# Altium footprint library connector.PcbLib: 63 footprints (part 3 of 4)
Each footprint in its own frame and in the unit in brackets; x right, y up, seen from the top. Pads: shape width x height; smd on the part's side, far side on the other; paste and mask are expansions set on the pad; w line width, h text height; cw(c..) or ccw(c..) is an arc to the next point about the centre after c.
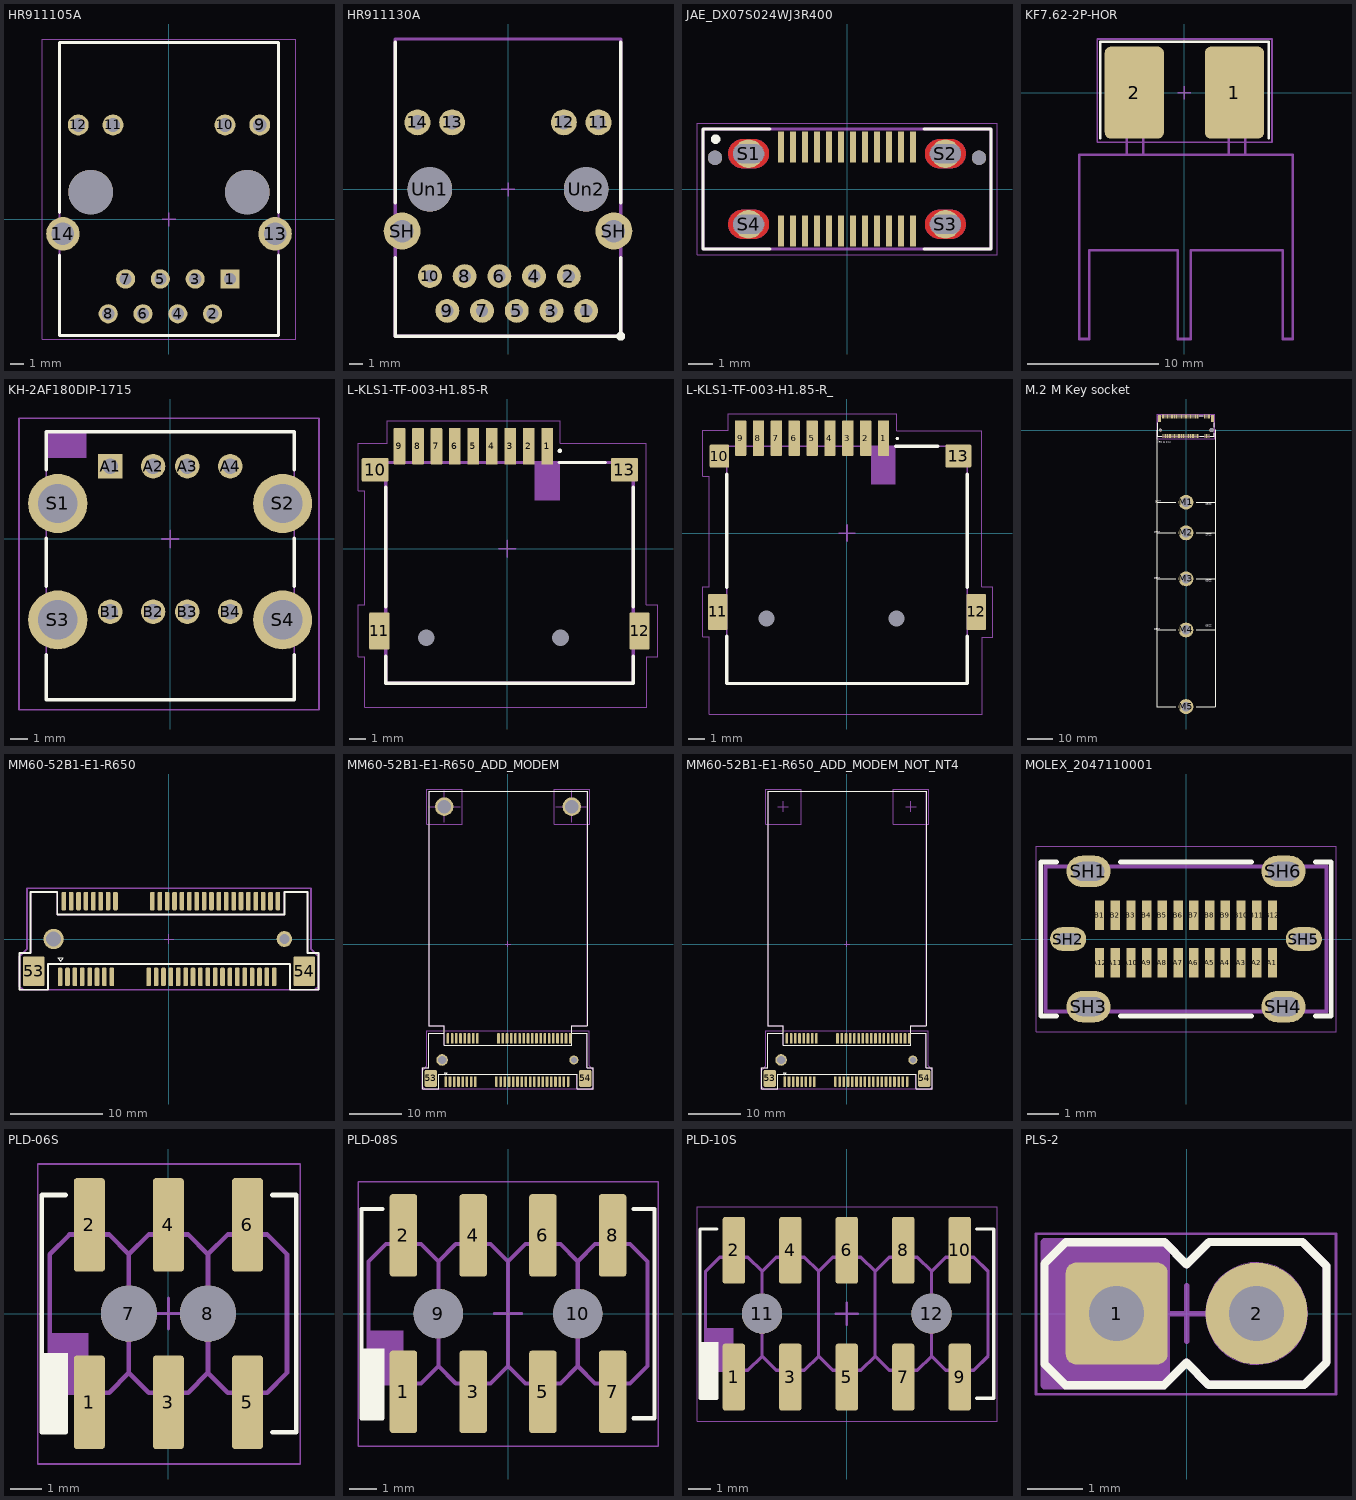
[diagram p2: the footprints below, top view; thin cyan lines are the x and y axes]

## HR911105A [mm]
pads (16):
  rect 1.398x1.398 / inner round 1.398 / far side rect 1.398x1.398 hole 0.89: 1(4.45,-4.355)
  round 1.398 hole 0.89: 2(3.18,-6.895) 3(1.91,-4.355) 4(0.64,-6.895) 5(-0.63,-4.355) 6(-1.9,-6.895) 7(-3.17,-4.355) 8(-4.44,-6.895)
  round 1.53 hole 1.02: 9(6.625,6.895) 10(4.085,6.895) 11(-4.085,6.895) 12(-6.625,6.895)
  round 2.445 hole 1.63: 13(7.745,-1.055) 14(-7.745,-1.055)
  round 3.25 hole 3.25 unplated: ""(-5.715,1.995) ""(5.715,1.995)
Top Overlay:
  lines w0.2: -8,-2.605 -8,-8.485 8,-8.485 8,-2.605 ; -8,0.495 -8,12.915 8,12.915 8,0.495
Top Designator:
  text ".Designator" at -2.799,13.545 h0.6
Top Assembly:
  lines w0.15: -8,-8.485 8,-8.485 8,12.915 -8,12.915 -8,-8.485
Top Courtyard:
  lines w0.05: -9.25,-8.735 9.25,-8.735 9.25,13.165 -9.25,13.165 -9.25,-8.735
  lines w0.1: -0.5,-0.005 0.5,-0.005 ; 0,-0.505 0,0.495
3D body "step_temp.STEP": height 13.6, standoff -2.95, extent -8,-8.385 8.04,12.915

## HR911130A [mm]
pads (18):
  round 1.75 hole 0.9 paste-2539.97 mask+0: 1(5.72,-8.89) 2(4.45,-6.35) 3(3.18,-8.89) 4(1.91,-6.35) 5(0.64,-8.89) 6(-0.63,-6.35) 7(-1.9,-8.89) 8(-3.17,-6.35) 9(-4.44,-8.89) 10(-5.71,-6.35)
  round 1.9 hole 1.05 paste-2539.97 mask+0: 11(6.625,4.9) 12(4.085,4.9) 13(-4.085,4.9) 14(-6.625,4.9)
  round 2.7 hole 1.65 paste-2539.97 mask+0: SH(-7.745,-3.05) SH(7.745,-3.05)
  round 3.25 hole 3.25 paste-2539.97 mask+0: Un1(-5.715,0) Un2(5.715,0)
Top Overlay:
  circle w0.254: c8.25,-10.75 r0.2
  lines w0.254: -8.25,-5 -8.25,-10.75 8.25,-10.75 8.25,-5 ; -8.25,-1 -8.25,10.75 ; 8.25,-1 8.25,10.75
Top Designator:
  text ".Designator" at -3.249,11.8 h0.6
Top Dimensions:
  lines w0.254: -8.25,-10.75 8.25,-10.75 8.25,11 -8.25,11 -8.25,-10.75
  text "1" at 7.664,-9.313 h1
Top Courtyard:
  lines w0.1: -0.5,0 0.5,0 ; 0,-0.5 0,0.5

## JAE_DX07S024WJ3R400 [mm]
pads (30):
  rrect20% 0.27x1.3 smd: A1(-2.75,1.75) A2(-2.25,1.75) A3(-1.75,1.75) A4(-1.25,1.75) A5(-0.75,1.75) A6(-0.25,1.75) A7(0.25,1.75) A8(0.75,1.75) A9(1.25,1.75) A10(1.75,1.75) A11(2.25,1.75) A12(2.75,1.75) B1(2.75,-1.75) B2(2.25,-1.75) B3(1.75,-1.75) B4(1.25,-1.75) B5(0.75,-1.75) B6(0.25,-1.75) B7(-0.25,-1.75) B8(-0.75,-1.75) B9(-1.25,-1.75) B10(-1.75,-1.75) B11(-2.25,-1.75) B12(-2.75,-1.75)
  round 1.2 hole 0.8 slot 1.3 at 0 deg: S1(-4.1,1.47) S2(4.1,1.47) S3(4.1,-1.47) S4(-4.1,-1.47)
  round 0.6 hole 0.6 unplated: ""(-5.5,1.3) ""(5.5,1.3)
Top Layer:
  region: 4.381,-0.871 4.413,-0.873 4.444,-0.877 4.475,-0.883 4.505,-0.89 4.535,-0.899 4.565,-0.91 4.594,-0.922 4.622,-0.935 4.65,-0.95 4.677,-0.967 4.703,-0.985 4.728,-1.004 4.751,-1.024 4.774,-1.046 4.796,-1.069 4.816,-1.092 4.835,-1.117 4.853,-1.143 4.87,-1.17 4.885,-1.198 4.898,-1.226 4.91,-1.255 4.921,-1.285 4.93,-1.315 4.937,-1.345 4.943,-1.376 4.947,-1.407 4.949,-1.439 4.95,-1.47 4.949,-1.501 4.947,-1.533 4.943,-1.564 4.937,-1.595 4.93,-1.625 4.921,-1.655 4.91,-1.685 4.898,-1.714 4.885,-1.742 4.87,-1.77 4.853,-1.797 4.835,-1.823 4.816,-1.848 4.796,-1.871 4.774,-1.894 4.751,-1.916 4.728,-1.936 4.703,-1.955 4.677,-1.973 4.65,-1.99 4.622,-2.005 4.594,-2.018 4.565,-2.03 4.535,-2.041 4.505,-2.05 4.475,-2.057 4.444,-2.063 4.413,-2.067 4.381,-2.069 4.35,-2.07 3.85,-2.07 3.819,-2.069 3.787,-2.067 3.756,-2.063 3.725,-2.057 3.695,-2.05 3.665,-2.041 3.635,-2.03 3.606,-2.018 3.578,-2.005 3.55,-1.99 3.523,-1.973 3.497,-1.955 3.472,-1.936 3.449,-1.916 3.426,-1.894 3.404,-1.871 3.384,-1.848 3.365,-1.823 3.347,-1.797 3.33,-1.77 3.315,-1.742 3.302,-1.714 3.29,-1.685 3.279,-1.655 3.27,-1.625 3.263,-1.595 3.257,-1.564 3.253,-1.533 3.251,-1.501 3.25,-1.47 3.251,-1.439 3.253,-1.407 3.257,-1.376 3.263,-1.345 3.27,-1.315 3.279,-1.285 3.29,-1.255 3.302,-1.226 3.315,-1.198 3.33,-1.17 3.347,-1.143 3.365,-1.117 3.384,-1.092 3.404,-1.069 3.426,-1.046 3.449,-1.024 3.472,-1.004 3.497,-0.985 3.523,-0.967 3.55,-0.95 3.578,-0.935 3.606,-0.922 3.635,-0.91 3.665,-0.899 3.695,-0.89 3.725,-0.883 3.756,-0.877 3.787,-0.873 3.819,-0.871 3.85,-0.87 4.35,-0.87
  region: 4.381,2.069 4.413,2.067 4.444,2.063 4.475,2.057 4.505,2.05 4.535,2.041 4.565,2.03 4.594,2.018 4.622,2.005 4.65,1.99 4.677,1.973 4.703,1.955 4.728,1.936 4.751,1.916 4.774,1.894 4.796,1.871 4.816,1.848 4.835,1.823 4.853,1.797 4.87,1.77 4.885,1.742 4.898,1.714 4.91,1.685 4.921,1.655 4.93,1.625 4.937,1.595 4.943,1.564 4.947,1.533 4.949,1.501 4.95,1.47 4.949,1.439 4.947,1.407 4.943,1.376 4.937,1.345 4.93,1.315 4.921,1.285 4.91,1.255 4.898,1.226 4.885,1.198 4.87,1.17 4.853,1.143 4.835,1.117 4.816,1.092 4.796,1.069 4.774,1.046 4.751,1.024 4.728,1.004 4.703,0.985 4.677,0.967 4.65,0.95 4.622,0.935 4.594,0.922 4.565,0.91 4.535,0.899 4.505,0.89 4.475,0.883 4.444,0.877 4.413,0.873 4.381,0.871 4.35,0.87 3.85,0.87 3.819,0.871 3.787,0.873 3.756,0.877 3.725,0.883 3.695,0.89 3.665,0.899 3.635,0.91 3.606,0.922 3.578,0.935 3.55,0.95 3.523,0.967 3.497,0.985 3.472,1.004 3.449,1.024 3.426,1.046 3.404,1.069 3.384,1.092 3.365,1.117 3.347,1.143 3.33,1.17 3.315,1.198 3.302,1.226 3.29,1.255 3.279,1.285 3.27,1.315 3.263,1.345 3.257,1.376 3.253,1.407 3.251,1.439 3.25,1.47 3.251,1.501 3.253,1.533 3.257,1.564 3.263,1.595 3.27,1.625 3.279,1.655 3.29,1.685 3.302,1.714 3.315,1.742 3.33,1.77 3.347,1.797 3.365,1.823 3.384,1.848 3.404,1.871 3.426,1.894 3.449,1.916 3.472,1.936 3.497,1.955 3.523,1.973 3.55,1.99 3.578,2.005 3.606,2.018 3.635,2.03 3.665,2.041 3.695,2.05 3.725,2.057 3.756,2.063 3.787,2.067 3.819,2.069 3.85,2.07 4.35,2.07
  region: -3.819,-0.871 -3.787,-0.873 -3.756,-0.877 -3.725,-0.883 -3.695,-0.89 -3.665,-0.899 -3.635,-0.91 -3.606,-0.922 -3.578,-0.935 -3.55,-0.95 -3.523,-0.967 -3.497,-0.985 -3.472,-1.004 -3.449,-1.024 -3.426,-1.046 -3.404,-1.069 -3.384,-1.092 -3.365,-1.117 -3.347,-1.143 -3.33,-1.17 -3.315,-1.198 -3.302,-1.226 -3.29,-1.255 -3.279,-1.285 -3.27,-1.315 -3.263,-1.345 -3.257,-1.376 -3.253,-1.407 -3.251,-1.439 -3.25,-1.47 -3.251,-1.501 -3.253,-1.533 -3.257,-1.564 -3.263,-1.595 -3.27,-1.625 -3.279,-1.655 -3.29,-1.685 -3.302,-1.714 -3.315,-1.742 -3.33,-1.77 -3.347,-1.797 -3.365,-1.823 -3.384,-1.848 -3.404,-1.871 -3.426,-1.894 -3.449,-1.916 -3.472,-1.936 -3.497,-1.955 -3.523,-1.973 -3.55,-1.99 -3.578,-2.005 -3.606,-2.018 -3.635,-2.03 -3.665,-2.041 -3.695,-2.05 -3.725,-2.057 -3.756,-2.063 -3.787,-2.067 -3.819,-2.069 -3.85,-2.07 -4.35,-2.07 -4.381,-2.069 -4.413,-2.067 -4.444,-2.063 -4.475,-2.057 -4.505,-2.05 -4.535,-2.041 -4.565,-2.03 -4.594,-2.018 -4.622,-2.005 -4.65,-1.99 -4.677,-1.973 -4.703,-1.955 -4.728,-1.936 -4.751,-1.916 -4.774,-1.894 -4.796,-1.871 -4.816,-1.848 -4.835,-1.823 -4.853,-1.797 -4.87,-1.77 -4.885,-1.742 -4.898,-1.714 -4.91,-1.685 -4.921,-1.655 -4.93,-1.625 -4.937,-1.595 -4.943,-1.564 -4.947,-1.533 -4.949,-1.501 -4.95,-1.47 -4.949,-1.439 -4.947,-1.407 -4.943,-1.376 -4.937,-1.345 -4.93,-1.315 -4.921,-1.285 -4.91,-1.255 -4.898,-1.226 -4.885,-1.198 -4.87,-1.17 -4.853,-1.143 -4.835,-1.117 -4.816,-1.092 -4.796,-1.069 -4.774,-1.046 -4.751,-1.024 -4.728,-1.004 -4.703,-0.985 -4.677,-0.967 -4.65,-0.95 -4.622,-0.935 -4.594,-0.922 -4.565,-0.91 -4.535,-0.899 -4.505,-0.89 -4.475,-0.883 -4.444,-0.877 -4.413,-0.873 -4.381,-0.871 -4.35,-0.87 -3.85,-0.87
  region: -3.819,2.069 -3.787,2.067 -3.756,2.063 -3.725,2.057 -3.695,2.05 -3.665,2.041 -3.635,2.03 -3.606,2.018 -3.578,2.005 -3.55,1.99 -3.523,1.973 -3.497,1.955 -3.472,1.936 -3.449,1.916 -3.426,1.894 -3.404,1.871 -3.384,1.848 -3.365,1.823 -3.347,1.797 -3.33,1.77 -3.315,1.742 -3.302,1.714 -3.29,1.685 -3.279,1.655 -3.27,1.625 -3.263,1.595 -3.257,1.564 -3.253,1.533 -3.251,1.501 -3.25,1.47 -3.251,1.439 -3.253,1.407 -3.257,1.376 -3.263,1.345 -3.27,1.315 -3.279,1.285 -3.29,1.255 -3.302,1.226 -3.315,1.198 -3.33,1.17 -3.347,1.143 -3.365,1.117 -3.384,1.092 -3.404,1.069 -3.426,1.046 -3.449,1.024 -3.472,1.004 -3.497,0.985 -3.523,0.967 -3.55,0.95 -3.578,0.935 -3.606,0.922 -3.635,0.91 -3.665,0.899 -3.695,0.89 -3.725,0.883 -3.756,0.877 -3.787,0.873 -3.819,0.871 -3.85,0.87 -4.35,0.87 -4.381,0.871 -4.413,0.873 -4.444,0.877 -4.475,0.883 -4.505,0.89 -4.535,0.899 -4.565,0.91 -4.594,0.922 -4.622,0.935 -4.65,0.95 -4.677,0.967 -4.703,0.985 -4.728,1.004 -4.751,1.024 -4.774,1.046 -4.796,1.069 -4.816,1.092 -4.835,1.117 -4.853,1.143 -4.87,1.17 -4.885,1.198 -4.898,1.226 -4.91,1.255 -4.921,1.285 -4.93,1.315 -4.937,1.345 -4.943,1.376 -4.947,1.407 -4.949,1.439 -4.95,1.47 -4.949,1.501 -4.947,1.533 -4.943,1.564 -4.937,1.595 -4.93,1.625 -4.921,1.655 -4.91,1.685 -4.898,1.714 -4.885,1.742 -4.87,1.77 -4.853,1.797 -4.835,1.823 -4.816,1.848 -4.796,1.871 -4.774,1.894 -4.751,1.916 -4.728,1.936 -4.703,1.955 -4.677,1.973 -4.65,1.99 -4.622,2.005 -4.594,2.018 -4.565,2.03 -4.535,2.041 -4.505,2.05 -4.475,2.057 -4.444,2.063 -4.413,2.067 -4.381,2.069 -4.35,2.07 -3.85,2.07
Bottom Layer:
  region: 4.381,-0.871 4.413,-0.873 4.444,-0.877 4.475,-0.883 4.505,-0.89 4.535,-0.899 4.565,-0.91 4.594,-0.922 4.622,-0.935 4.65,-0.95 4.677,-0.967 4.703,-0.985 4.728,-1.004 4.751,-1.024 4.774,-1.046 4.796,-1.069 4.816,-1.092 4.835,-1.117 4.853,-1.143 4.87,-1.17 4.885,-1.198 4.898,-1.226 4.91,-1.255 4.921,-1.285 4.93,-1.315 4.937,-1.345 4.943,-1.376 4.947,-1.407 4.949,-1.439 4.95,-1.47 4.949,-1.501 4.947,-1.533 4.943,-1.564 4.937,-1.595 4.93,-1.625 4.921,-1.655 4.91,-1.685 4.898,-1.714 4.885,-1.742 4.87,-1.77 4.853,-1.797 4.835,-1.823 4.816,-1.848 4.796,-1.871 4.774,-1.894 4.751,-1.916 4.728,-1.936 4.703,-1.955 4.677,-1.973 4.65,-1.99 4.622,-2.005 4.594,-2.018 4.565,-2.03 4.535,-2.041 4.505,-2.05 4.475,-2.057 4.444,-2.063 4.413,-2.067 4.381,-2.069 4.35,-2.07 3.85,-2.07 3.819,-2.069 3.787,-2.067 3.756,-2.063 3.725,-2.057 3.695,-2.05 3.665,-2.041 3.635,-2.03 3.606,-2.018 3.578,-2.005 3.55,-1.99 3.523,-1.973 3.497,-1.955 3.472,-1.936 3.449,-1.916 3.426,-1.894 3.404,-1.871 3.384,-1.848 3.365,-1.823 3.347,-1.797 3.33,-1.77 3.315,-1.742 3.302,-1.714 3.29,-1.685 3.279,-1.655 3.27,-1.625 3.263,-1.595 3.257,-1.564 3.253,-1.533 3.251,-1.501 3.25,-1.47 3.251,-1.439 3.253,-1.407 3.257,-1.376 3.263,-1.345 3.27,-1.315 3.279,-1.285 3.29,-1.255 3.302,-1.226 3.315,-1.198 3.33,-1.17 3.347,-1.143 3.365,-1.117 3.384,-1.092 3.404,-1.069 3.426,-1.046 3.449,-1.024 3.472,-1.004 3.497,-0.985 3.523,-0.967 3.55,-0.95 3.578,-0.935 3.606,-0.922 3.635,-0.91 3.665,-0.899 3.695,-0.89 3.725,-0.883 3.756,-0.877 3.787,-0.873 3.819,-0.871 3.85,-0.87 4.35,-0.87
  region: 4.381,2.069 4.413,2.067 4.444,2.063 4.475,2.057 4.505,2.05 4.535,2.041 4.565,2.03 4.594,2.018 4.622,2.005 4.65,1.99 4.677,1.973 4.703,1.955 4.728,1.936 4.751,1.916 4.774,1.894 4.796,1.871 4.816,1.848 4.835,1.823 4.853,1.797 4.87,1.77 4.885,1.742 4.898,1.714 4.91,1.685 4.921,1.655 4.93,1.625 4.937,1.595 4.943,1.564 4.947,1.533 4.949,1.501 4.95,1.47 4.949,1.439 4.947,1.407 4.943,1.376 4.937,1.345 4.93,1.315 4.921,1.285 4.91,1.255 4.898,1.226 4.885,1.198 4.87,1.17 4.853,1.143 4.835,1.117 4.816,1.092 4.796,1.069 4.774,1.046 4.751,1.024 4.728,1.004 4.703,0.985 4.677,0.967 4.65,0.95 4.622,0.935 4.594,0.922 4.565,0.91 4.535,0.899 4.505,0.89 4.475,0.883 4.444,0.877 4.413,0.873 4.381,0.871 4.35,0.87 3.85,0.87 3.819,0.871 3.787,0.873 3.756,0.877 3.725,0.883 3.695,0.89 3.665,0.899 3.635,0.91 3.606,0.922 3.578,0.935 3.55,0.95 3.523,0.967 3.497,0.985 3.472,1.004 3.449,1.024 3.426,1.046 3.404,1.069 3.384,1.092 3.365,1.117 3.347,1.143 3.33,1.17 3.315,1.198 3.302,1.226 3.29,1.255 3.279,1.285 3.27,1.315 3.263,1.345 3.257,1.376 3.253,1.407 3.251,1.439 3.25,1.47 3.251,1.501 3.253,1.533 3.257,1.564 3.263,1.595 3.27,1.625 3.279,1.655 3.29,1.685 3.302,1.714 3.315,1.742 3.33,1.77 3.347,1.797 3.365,1.823 3.384,1.848 3.404,1.871 3.426,1.894 3.449,1.916 3.472,1.936 3.497,1.955 3.523,1.973 3.55,1.99 3.578,2.005 3.606,2.018 3.635,2.03 3.665,2.041 3.695,2.05 3.725,2.057 3.756,2.063 3.787,2.067 3.819,2.069 3.85,2.07 4.35,2.07
  region: -3.819,-0.871 -3.787,-0.873 -3.756,-0.877 -3.725,-0.883 -3.695,-0.89 -3.665,-0.899 -3.635,-0.91 -3.606,-0.922 -3.578,-0.935 -3.55,-0.95 -3.523,-0.967 -3.497,-0.985 -3.472,-1.004 -3.449,-1.024 -3.426,-1.046 -3.404,-1.069 -3.384,-1.092 -3.365,-1.117 -3.347,-1.143 -3.33,-1.17 -3.315,-1.198 -3.302,-1.226 -3.29,-1.255 -3.279,-1.285 -3.27,-1.315 -3.263,-1.345 -3.257,-1.376 -3.253,-1.407 -3.251,-1.439 -3.25,-1.47 -3.251,-1.501 -3.253,-1.533 -3.257,-1.564 -3.263,-1.595 -3.27,-1.625 -3.279,-1.655 -3.29,-1.685 -3.302,-1.714 -3.315,-1.742 -3.33,-1.77 -3.347,-1.797 -3.365,-1.823 -3.384,-1.848 -3.404,-1.871 -3.426,-1.894 -3.449,-1.916 -3.472,-1.936 -3.497,-1.955 -3.523,-1.973 -3.55,-1.99 -3.578,-2.005 -3.606,-2.018 -3.635,-2.03 -3.665,-2.041 -3.695,-2.05 -3.725,-2.057 -3.756,-2.063 -3.787,-2.067 -3.819,-2.069 -3.85,-2.07 -4.35,-2.07 -4.381,-2.069 -4.413,-2.067 -4.444,-2.063 -4.475,-2.057 -4.505,-2.05 -4.535,-2.041 -4.565,-2.03 -4.594,-2.018 -4.622,-2.005 -4.65,-1.99 -4.677,-1.973 -4.703,-1.955 -4.728,-1.936 -4.751,-1.916 -4.774,-1.894 -4.796,-1.871 -4.816,-1.848 -4.835,-1.823 -4.853,-1.797 -4.87,-1.77 -4.885,-1.742 -4.898,-1.714 -4.91,-1.685 -4.921,-1.655 -4.93,-1.625 -4.937,-1.595 -4.943,-1.564 -4.947,-1.533 -4.949,-1.501 -4.95,-1.47 -4.949,-1.439 -4.947,-1.407 -4.943,-1.376 -4.937,-1.345 -4.93,-1.315 -4.921,-1.285 -4.91,-1.255 -4.898,-1.226 -4.885,-1.198 -4.87,-1.17 -4.853,-1.143 -4.835,-1.117 -4.816,-1.092 -4.796,-1.069 -4.774,-1.046 -4.751,-1.024 -4.728,-1.004 -4.703,-0.985 -4.677,-0.967 -4.65,-0.95 -4.622,-0.935 -4.594,-0.922 -4.565,-0.91 -4.535,-0.899 -4.505,-0.89 -4.475,-0.883 -4.444,-0.877 -4.413,-0.873 -4.381,-0.871 -4.35,-0.87 -3.85,-0.87
  region: -3.819,2.069 -3.787,2.067 -3.756,2.063 -3.725,2.057 -3.695,2.05 -3.665,2.041 -3.635,2.03 -3.606,2.018 -3.578,2.005 -3.55,1.99 -3.523,1.973 -3.497,1.955 -3.472,1.936 -3.449,1.916 -3.426,1.894 -3.404,1.871 -3.384,1.848 -3.365,1.823 -3.347,1.797 -3.33,1.77 -3.315,1.742 -3.302,1.714 -3.29,1.685 -3.279,1.655 -3.27,1.625 -3.263,1.595 -3.257,1.564 -3.253,1.533 -3.251,1.501 -3.25,1.47 -3.251,1.439 -3.253,1.407 -3.257,1.376 -3.263,1.345 -3.27,1.315 -3.279,1.285 -3.29,1.255 -3.302,1.226 -3.315,1.198 -3.33,1.17 -3.347,1.143 -3.365,1.117 -3.384,1.092 -3.404,1.069 -3.426,1.046 -3.449,1.024 -3.472,1.004 -3.497,0.985 -3.523,0.967 -3.55,0.95 -3.578,0.935 -3.606,0.922 -3.635,0.91 -3.665,0.899 -3.695,0.89 -3.725,0.883 -3.756,0.877 -3.787,0.873 -3.819,0.871 -3.85,0.87 -4.35,0.87 -4.381,0.871 -4.413,0.873 -4.444,0.877 -4.475,0.883 -4.505,0.89 -4.535,0.899 -4.565,0.91 -4.594,0.922 -4.622,0.935 -4.65,0.95 -4.677,0.967 -4.703,0.985 -4.728,1.004 -4.751,1.024 -4.774,1.046 -4.796,1.069 -4.816,1.092 -4.835,1.117 -4.853,1.143 -4.87,1.17 -4.885,1.198 -4.898,1.226 -4.91,1.255 -4.921,1.285 -4.93,1.315 -4.937,1.345 -4.943,1.376 -4.947,1.407 -4.949,1.439 -4.95,1.47 -4.949,1.501 -4.947,1.533 -4.943,1.564 -4.937,1.595 -4.93,1.625 -4.921,1.655 -4.91,1.685 -4.898,1.714 -4.885,1.742 -4.87,1.77 -4.853,1.797 -4.835,1.823 -4.816,1.848 -4.796,1.871 -4.774,1.894 -4.751,1.916 -4.728,1.936 -4.703,1.955 -4.677,1.973 -4.65,1.99 -4.622,2.005 -4.594,2.018 -4.565,2.03 -4.535,2.041 -4.505,2.05 -4.475,2.057 -4.444,2.063 -4.413,2.067 -4.381,2.069 -4.35,2.07 -3.85,2.07
Top Overlay:
  circle w0.2: c-5.475,2.075 r0.1
  lines w0.127: -3.2,-2.5 -6,-2.5 -6,2.5 -3.2,2.5 ; 3.2,-2.5 6,-2.5 6,2.5 3.2,2.5
Top Solder:
  drawing of 4 lines, arcs and shapes, not listed
Bottom Solder:
  drawing of 4 lines, arcs and shapes, not listed
Top Assembly:
  lines w0.127: -6,-2.5 6,-2.5 6,2.5 -6,2.5 -6,-2.5
Top Courtyard:
  lines w0.05: -6.25,-2.75 6.25,-2.75 6.25,2.75 -6.25,2.75 -6.25,-2.75
3D body "DX07S024WJ3R400--3DModel-STEP-56544.STEP": height 10.3, standoff -1.85, extent -6,-2.525 6,2.475

## KF7.62-2P-HOR [mm]
pads (2):
  rrect20% 4.5x7 smd: 1(3.81,0) 2(-3.81,0)
Top Overlay:
  lines w0.2: -6.4,-3.475 -6.4,3.875 6.425,3.875 6.425,-3.475
Top Designator:
  text ".Designator" at -2.709,4.724 h0.6
Top Assembly:
  lines w0.2: -3.125,-4.725 -3.125,-0.5 -4.375,-0.5 -4.375,-4.725 ; 3.375,-4.725 3.375,-0.5 4.625,-0.5 4.625,-4.725 ; -4.375,-4.725 -7.975,-4.725 -8,-4.75 -8,-18.75 -7.25,-18.75 -7.25,-12 -0.5,-12 -0.5,-18.75 0.5,-18.75 0.5,-12 7.5,-12 7.5,-18.75 8.25,-18.75 8.25,-4.75 8.225,-4.725 -4.375,-4.725
Top Courtyard:
  lines w0.1: -0.5,0 0.5,0 ; 0,-0.5 0,0.5
  lines w0.127: -6.624,-3.775 6.669,-3.775 6.669,4.08 -6.624,4.08 -6.624,-3.775
3D body "DG25C-B-02P-13-00A&Z(H).stp": height 7.25, standoff -6.25, extent -8.23,-18.8 8.51,1.3

## KH-2AF180DIP-1715 [mm] "USB-A (USB TYPE-A) Receptacle Connector 4 Positionx2 Through Hole"
pads (12):
  rect 1.431x1.431 hole 0.92: A1(-3.5,4.25)
  round 1.431 hole 0.92: A2(-1,4.25) A3(1,4.25) A4(3.5,4.25) B1(-3.5,-4.25) B2(-1,-4.25) B3(1,-4.25) B4(3.5,-4.25)
  round 3.45 hole 2.3: S1(-6.57,2.07) S2(6.57,2.07) S3(-6.57,-4.73) S4(6.57,-4.73)
Top Overlay:
  lines w0.2: -7.25,-6.77 -7.25,-9.39 7.25,-9.39 7.25,-6.77 ; -7.25,-2.77 -7.25,0.03 ; -7.25,4.03 -7.25,6.25 7.25,6.25 7.25,4.03 ; 7.25,-2.77 7.25,0.03
Top Designator:
  text ".Designator" at -3.053,7.523 h0.6
Top Assembly:
  region: -4.9,4.734 -4.9,6.25 -7.243,6.25 -7.243,4.734
  lines w0.1: -7.25,-9.39 -7.25,6.25 7.25,6.25 7.25,-9.39 -7.25,-9.39
Top Courtyard:
  lines w0.1: -0.5,0 0.5,0 ; 0,-0.5 0,0.5 ; -8.834,-9.974 -8.834,7.044 8.692,7.044 8.692,-9.974 -8.834,-9.974
3D body "614008235023.stp": height 17.85, standoff -3.45, extent -7.8,-9.125 7.8,6.525

## L-KLS1-TF-003-H1.85-R [mm]
pads (15):
  rrect20% 0.7x2.2 smd: 1(2.375,6.1) 2(1.275,6.1) 3(0.175,6.1) 4(-0.925,6.1) 5(-2.025,6.1) 6(-3.125,6.1) 7(-4.225,6.1) 8(-5.325,6.1) 9(-6.425,6.1)
  rrect10% 1.6x1.4 smd: 10(-7.875,4.7) 13(6.975,4.7)
  rrect10% 1.2x2.2 smd: 11(-7.625,-4.9) 12(7.875,-4.9)
  round 0.5 hole 1 unplated: 14(-4.825,-5.3) 15(3.175,-5.3)
Top Overlay:
  circle w0.2: c3.125,5.825 r0.034
  lines w0.2: -7.25,-6.404 -7.25,-8.006 7.5,-8.006 7.5,-6.404 ; -7.25,-3.465 -7.25,3.65 ; 3.075,5.131 5.823,5.131 ; 7.5,-3.465 7.5,3.65
Top Designator:
  text ".Designator" at -4.874,7.75 h0.6
Top Assembly:
  rectangle: 1.611,2.861 3.126,5.203
  lines w0.2: -7.25,-8.006 7.5,-8.006 7.5,5.131 -7.25,5.131 -7.25,-8.006
Top Courtyard:
  lines w0.05: -8.895,-6.425 -8.895,-3.35 -8.5,-3.35 -8.5,3.45 -8.895,3.45 -8.895,6.272 -7.15,6.272 -7.15,7.625 3.15,7.625 3.15,6.268 8.282,6.268 8.282,-3.35 8.95,-3.35 8.95,-6.45 8.293,-6.45 8.293,-9.45 -8.5,-9.45 -8.5,-6.425 -8.895,-6.425
  lines w0.1: -0.5,0 0.5,0 ; 0,-0.5 0,0.5
3D body "L-KLS1-TF-003-H1.85-R.stp": height 1.95, standoff -0.5, extent -7.934,-9.271 8.166,5.932

## L-KLS1-TF-003-H1.85-R_ [mm]
pads (15):
  rrect20% 0.7x2.2 smd: 1(2.25,5.85) 2(1.15,5.85) 3(0.05,5.85) 4(-1.05,5.85) 5(-2.15,5.85) 6(-3.25,5.85) 7(-4.35,5.85) 8(-5.45,5.85) 9(-6.55,5.85)
  rrect10% 1.2x1.4 smd: 10(-7.85,4.75)
  rrect10% 1.2x2.2 smd: 11(-7.95,-4.85) 12(7.95,-4.85)
  rrect10% 1.6x1.4 smd: 13(6.85,4.75)
  round 0.5 hole 1 unplated: 14(-4.95,-5.25) 15(3.05,-5.25)
Top Overlay:
  lines w0.1: 3.1,5.775 cw(c3.1,5.825) 3.1,5.875 cw(c3.1,5.825) 3.1,5.775
  lines w0.2: -7.4,-6.35 -7.4,-9.25 7.4,-9.25 7.4,-6.35 ; -7.4,-3.35 -7.4,3.65 ; 3,5.35 5.6,5.35 ; 7.4,-3.35 7.4,3.65
Top Designator:
  text ".Designator" at -4.874,7.75 h0.6
Top Assembly:
  rectangle: 1.484,3 3,5.343
  lines w0.1: -7.4,-9.25 7.4,-9.25 7.4,5.35 -7.4,5.35 -7.4,-9.25
Top Courtyard:
  lines w0.05: -8.87,-6.375 -8.87,-3.3 -8.475,-3.3 -8.475,3.5 -8.87,3.5 -8.87,6.322 -7.308,6.322 -7.308,7.336 3.05,7.336 3.05,6.75 3.05,6.318 8.307,6.318 8.307,-3.3 8.975,-3.3 8.975,-6.4 8.318,-6.4 8.318,-11.132 -8.475,-11.132 -8.475,-6.375 -8.87,-6.375
  lines w0.1: -0.5,0 0.5,0 ; 0,-0.5 0,0.5
3D body "MicroSD_Socket.STEP": height 2.05, standoff -0.4, extent -8.125,-11.072 7.975,5.975

## M.2 M Key socket [mm]
pads (76):
  rect 0.3x1.55 smd mask+0.102: 1(-9.25,5.275) 2(-9,-2.275) 3(-8.75,5.275) 4(-8.5,-2.275) 5(-8.25,5.275) 6(-8,-2.275) 7(-7.75,5.275) 8(-7.5,-2.275) 9(-7.25,5.275) 10(-7,-2.275) 11(-6.75,5.275) 12(-6.5,-2.275) 13(-6.25,5.275) 14(-6,-2.275) 15(-5.75,5.275) 16(-5.5,-2.275) 17(-5.25,5.275) 18(-5,-2.275) 19(-4.75,5.275) 20(-4.5,-2.275) 21(-4.25,5.275) 22(-4,-2.275) 23(-3.75,5.275) 24(-3.5,-2.275) 25(-3.25,5.275) 26(-3,-2.275) 27(-2.75,5.275) 28(-2.5,-2.275) 29(-2.25,5.275) 30(-2,-2.275) 31(-1.75,5.275) 32(-1.5,-2.275) 33(-1.25,5.275) 34(-1,-2.275) 35(-0.75,5.275) 36(-0.5,-2.275) 37(-0.25,5.275) 38(0,-2.275) 39(0.25,5.275) 40(0.5,-2.275) 41(0.75,5.275) 42(1,-2.275) 43(1.25,5.275) 44(1.5,-2.275) 45(1.75,5.275) 46(2,-2.275) 47(2.25,5.275) 48(2.5,-2.275) 49(2.75,5.275) 50(3,-2.275) 51(3.25,5.275) 52(3.5,-2.275) 53(3.75,5.275) 54(4,-2.275) 55(4.25,5.275) 56(4.5,-2.275) 57(4.75,5.275) 58(5,-2.275) 67(7.25,5.275) 68(7.5,-2.275) 69(7.75,5.275) 70(8,-2.275) 71(8.25,5.275) 72(8.5,-2.275) 73(8.75,5.275) 74(9,-2.275) 75(9.25,5.275)
  rect 1.2x2.75 smd mask+0.102: 76(-10.35,4.5) 77(10.35,4.5)
  round 5.8 hole 3.7 paste-2539.97 mask+0.2: M1(0,-28.25) M2(0,-40.25) M3(0,-58.25) M4(0,-78.25) M5(0,-108.25)
  round 1.15 hole 1.15 paste-2539.97 mask+0: Un1(-10,0)
  round 1.65 hole 1.65 paste-2539.97 mask+0: Un2(10,0)
Top Overlay:
  lines w0.254: -11.5,-78.25 -4,-78.25 ; -11.5,-58.25 -4,-58.25 ; -11.5,-40.25 -4,-40.25 ; -11.5,-28.25 -4,-28.25 ; -11.5,-0.025 -11.5,-108.25 -4,-108.25 ; -11,2.805 -11,-2.48 -9.47,-2.48 ; 4,-108.25 11.5,-108.25 11.5,0.1 ; 4,-78.25 11.5,-78.25 ; 4,-58.25 11.5,-58.25 ; 4,-40.25 11.5,-40.25 ; 4,-28.25 11.5,-28.25 ; 5.213,5.7 6.776,5.7 ; 5.463,-2.48 7.027,-2.48 ; 9.47,-2.48 11,-2.48 11,-1.145 ; 11,1.145 11,2.805
  text "2230" at 10,-28.465 h1
  text "2230" at -9.75,-27.465 h1
  text "2242" at 10,-40.47 h1
  text "2280" at -10,-77.465 h1
  text "2260" at -10,-57.465 h1
  text "M.2 M Key" at -6,-4.175 h1
  text "2242" at -10,-39.47 h1
  text "2280" at 10,-75.965 h1
  text "2260" at 10,-58.465 h1
Assembly Notes:
  lines w0.254: -11.25,-3.3 -11.25,6.3 11.25,6.3 11.25,-3.3 -11.25,-3.3
Route Tool Path:
  lines w0.254: -11,-2.48 -11,5.7 11,5.7 11,-2.48 -11,-2.48

## MM60-52B1-E1-R650 [mm]
pads (56):
  rrect50% 0.5x2 smd paste-25.4: 1(-11.8,-4.1) 2(-11.4,4.1) 3(-11,-4.1) 4(-10.6,4.1) 5(-10.2,-4.1) 6(-9.8,4.1) 7(-9.4,-4.1) 8(-9,4.1) 9(-8.6,-4.1) 10(-8.2,4.1) 11(-7.8,-4.1) 12(-7.4,4.1) 13(-7,-4.1) 14(-6.6,4.1) 15(-6.2,-4.1) 16(-5.8,4.1) 17(-2.2,-4.1) 18(-1.8,4.1) 19(-1.4,-4.1) 20(-1,4.1) 21(-0.6,-4.1) 22(-0.2,4.1) 23(0.2,-4.1) 24(0.6,4.1) 25(1,-4.1) 26(1.4,4.1) 27(1.8,-4.1) 28(2.2,4.1) 29(2.6,-4.1) 30(3,4.1) 31(3.4,-4.1) 32(3.8,4.1) 33(4.2,-4.1) 34(4.6,4.1) 35(5,-4.1) 36(5.4,4.1) 37(5.8,-4.1) 38(6.2,4.1) 39(6.6,-4.1) 40(7,4.1) 41(7.4,-4.1) 42(7.8,4.1) 43(8.2,-4.1) 44(8.6,4.1) 45(9,-4.1) 46(9.4,4.1) 47(9.8,-4.1) 48(10.2,4.1) 49(10.6,-4.1) 50(11,4.1) 51(11.4,-4.1) 52(11.8,4.1)
  rrect10% 2.3x3.2 smd paste-25.4: 53(-14.65,-3.5) 54(14.65,-3.5)
  round 2.2 hole 1.6 paste-2539.97: unused1(-12.5,0)
  round 1.7 hole 1.1 paste-2539.97: unused2(12.5,0)
Top Overlay:
  lines w0.1: -12.054,-2.015 -11.454,-2.015 -11.754,-2.415 -12.054,-2.015
  lines w0.2: -16.2,-5.5 -13.1,-5.5 -13.1,-2.711 13.1,-2.711 13.1,-5.5 16.2,-5.5 16.2,-1.5 15,-1.5 15,5.1 12.517,5.1 12.517,2.659 -12.1,2.659 -12.1,5.1 -15,5.1 -15,-1.5 -16.2,-1.5 -16.2,-5.5
Top Paste:
  drawing of 54 lines, arcs and shapes, not listed
Top Designator:
  text ".Designator" at -11.574,-6.425 h0.6
Top Assembly:
  lines w0.15: -16.185,-5.475 -16.185,-1.475 -14.985,-1.475 -14.985,5.125 -12.085,5.125 -12.085,2.642 12.5,2.642 12.5,5.125 15.015,5.125 15.015,-1.475 16.215,-1.475 16.215,-5.475 13.115,-5.475 13.115,-2.711 -13.085,-2.711 -13.085,-5.475 -16.185,-5.475
Top Courtyard:
  lines w0.1: -0.5,0 0.5,0 ; 0,-0.5 0,0.5
  lines w0.2: -16.2,-5.1 -16.2,-1.9 -15.4,-1.1 -15.4,5.5 15.4,5.5 15.4,-1.1 16.2,-1.9 16.2,-5.1 15.8,-5.5 -15.8,-5.5 -16.2,-5.1
3D body "K3D-MM60-52B1-E1-R2 JAE Connector Division Proprietary.STEP": height 6, standoff -0.7, extent -14.85,-5.04 14.85,4.96

## MM60-52B1-E1-R650_ADD_MODEM [mm]
pads (58):
  rrect50% 0.5x2 smd paste-25.4: 1(-11.8,-26.075) 2(-11.4,-17.875) 3(-11,-26.075) 4(-10.6,-17.875) 5(-10.2,-26.075) 6(-9.8,-17.875) 7(-9.4,-26.075) 8(-9,-17.875) 9(-8.6,-26.075) 10(-8.2,-17.875) 11(-7.8,-26.075) 12(-7.4,-17.875) 13(-7,-26.075) 14(-6.6,-17.875) 15(-6.2,-26.075) 16(-5.8,-17.875) 17(-2.2,-26.075) 18(-1.8,-17.875) 19(-1.4,-26.075) 20(-1,-17.875) 21(-0.6,-26.075) 22(-0.2,-17.875) 23(0.2,-26.075) 24(0.6,-17.875) 25(1,-26.075) 26(1.4,-17.875) 27(1.8,-26.075) 28(2.2,-17.875) 29(2.6,-26.075) 30(3,-17.875) 31(3.4,-26.075) 32(3.8,-17.875) 33(4.2,-26.075) 34(4.6,-17.875) 35(5,-26.075) 36(5.4,-17.875) 37(5.8,-26.075) 38(6.2,-17.875) 39(6.6,-26.075) 40(7,-17.875) 41(7.4,-26.075) 42(7.8,-17.875) 43(8.2,-26.075) 44(8.6,-17.875) 45(9,-26.075) 46(9.4,-17.875) 47(9.8,-26.075) 48(10.2,-17.875) 49(10.6,-26.075) 50(11,-17.875) 51(11.4,-26.075) 52(11.8,-17.875)
  rrect20% 2.3x3.2 smd paste-25.4: 53(-14.65,-25.475) 54(14.65,-25.475)
  round 2.2 hole 1.6 paste-2539.97: unused1(-12.5,-21.975)
  round 1.7 hole 1.1 paste-2539.97: unused2(12.5,-21.975)
  round 3.5 hole 2.5 paste-2539.97: unused3(-12.1,26.075) unused4(12.1,26.075)
Top Overlay:
  lines w0.1: -12.1,-24.375 -11.8,-24.775 -11.5,-24.375 -12.1,-24.375
  lines w0.2: -12.1,-16.875 -12.1,-15.475 -15,-15.475 -15,29.025 15,29.025 15,-15.475 12.1,-15.475 12.1,-16.875 ; -12.1,-16.875 -15,-16.875 -15,-23.475 -16.2,-23.475 -16.2,-27.475 -13.1,-27.475 -13.1,-24.685 13.1,-24.685 13.1,-27.475 16.2,-27.475 16.2,-23.475 15,-23.475 15,-16.875 12.1,-16.875 ; -12.1,-16.875 -12.1,-19.175 12.1,-19.175 12.1,-16.875
Top Paste:
  drawing of 54 lines, arcs and shapes, not listed
Top Designator:
  text ".Designator" at -11.824,-28.4 h0.6
Top Assembly:
  lines w0.15: -15.1,26.075 -12.1,26.075 ; -12.1,23.075 -12.1,26.075 ; -12.1,29.075 -12.1,26.075 ; -9.1,26.075 -12.1,26.075 ; 9.1,26.075 12.1,26.075 ; 12.1,23.075 12.1,26.075 ; 12.1,29.075 12.1,26.075 ; 15.1,26.075 12.1,26.075 ; -12.135,-16.879 -12.135,-15.479 -15.035,-15.479 -15.035,29.021 14.965,29.021 14.965,-15.479 12.065,-15.479 12.065,-16.879 ; -12.135,-16.879 -15.035,-16.879 -15.035,-23.479 -16.235,-23.479 -16.235,-27.479 -13.135,-27.479 -13.135,-24.689 13.065,-24.689 13.065,-27.479 16.165,-27.479 16.165,-23.479 14.965,-23.479 14.965,-16.879 12.065,-16.879 ; -12.135,-16.879 -12.135,-19.179 12.065,-19.179 12.065,-16.879
Top Courtyard:
  lines w0.1: -0.5,0 0.5,0 ; 0,-0.5 0,0.5
  lines w0.2: -16.2,-27.075 -16.2,-23.875 -15.4,-23.075 -15.4,-16.475 15.4,-16.475 15.4,-23.075 16.2,-23.875 16.2,-27.075 15.8,-27.475 -15.8,-27.475 -16.2,-27.075 ; -15.4,22.725 -15.4,29.425 -8.7,29.425 -8.7,22.725 -15.4,22.725 ; 8.8,22.725 8.8,29.425 15.5,29.425 15.5,22.725 8.8,22.725
3D body "K3D-MM60-52B1-E1-R2 JAE Connector Division Proprietary.STEP": height 5.95, standoff -0.75, extent -14.845,-26.963 14.855,-16.963

## MM60-52B1-E1-R650_ADD_MODEM_NOT_NT4 [mm]
pads (56):
  rrect50% 0.5x2 smd paste-25.4: 1(-11.8,-26.075) 2(-11.4,-17.875) 3(-11,-26.075) 4(-10.6,-17.875) 5(-10.2,-26.075) 6(-9.8,-17.875) 7(-9.4,-26.075) 8(-9,-17.875) 9(-8.6,-26.075) 10(-8.2,-17.875) 11(-7.8,-26.075) 12(-7.4,-17.875) 13(-7,-26.075) 14(-6.6,-17.875) 15(-6.2,-26.075) 16(-5.8,-17.875) 17(-2.2,-26.075) 18(-1.8,-17.875) 19(-1.4,-26.075) 20(-1,-17.875) 21(-0.6,-26.075) 22(-0.2,-17.875) 23(0.2,-26.075) 24(0.6,-17.875) 25(1,-26.075) 26(1.4,-17.875) 27(1.8,-26.075) 28(2.2,-17.875) 29(2.6,-26.075) 30(3,-17.875) 31(3.4,-26.075) 32(3.8,-17.875) 33(4.2,-26.075) 34(4.6,-17.875) 35(5,-26.075) 36(5.4,-17.875) 37(5.8,-26.075) 38(6.2,-17.875) 39(6.6,-26.075) 40(7,-17.875) 41(7.4,-26.075) 42(7.8,-17.875) 43(8.2,-26.075) 44(8.6,-17.875) 45(9,-26.075) 46(9.4,-17.875) 47(9.8,-26.075) 48(10.2,-17.875) 49(10.6,-26.075) 50(11,-17.875) 51(11.4,-26.075) 52(11.8,-17.875)
  rrect20% 2.3x3.2 smd paste-25.4: 53(-14.65,-25.475) 54(14.65,-25.475)
  round 2.2 hole 1.6 paste-2539.97: unused1(-12.5,-21.975)
  round 1.7 hole 1.1 paste-2539.97: unused2(12.5,-21.975)
Top Overlay:
  lines w0.1: -12.1,-24.375 -11.5,-24.375 -11.8,-24.775 -12.1,-24.375
  lines w0.2: -12.1,-16.875 -12.1,-19.175 12.1,-19.175 12.1,-16.875 ; -12.1,-16.875 -15,-16.875 -15,-23.475 -16.2,-23.475 -16.2,-27.475 -13.1,-27.475 -13.1,-24.685 13.1,-24.685 13.1,-27.475 16.2,-27.475 16.2,-23.475 15,-23.475 15,-16.875 12.1,-16.875 ; -12.1,-16.875 -12.1,-15.475 -15,-15.475 -15,29.025 15,29.025 15,-15.475 12.1,-15.475 12.1,-16.875
Top Paste:
  drawing of 54 lines, arcs and shapes, not listed
Top Designator:
  text ".Designator" at -11.824,-28.4 h0.6
Top Assembly:
  lines w0.15: -13.1,26.075 -12.1,26.075 ; -12.1,25.075 -12.1,26.075 ; -12.1,27.075 -12.1,26.075 ; -11.1,26.075 -12.1,26.075 ; 11.1,26.075 12.1,26.075 ; 12.1,25.075 12.1,26.075 ; 12.1,27.075 12.1,26.075 ; 13.1,26.075 12.1,26.075 ; -12.135,-16.879 -12.135,-19.179 12.065,-19.179 12.065,-16.879 ; -12.135,-16.879 -15.035,-16.879 -15.035,-23.479 -16.235,-23.479 -16.235,-27.479 -13.135,-27.479 -13.135,-24.689 13.065,-24.689 13.065,-27.479 16.165,-27.479 16.165,-23.479 14.965,-23.479 14.965,-16.879 12.065,-16.879 ; -12.135,-16.879 -12.135,-15.479 -15.035,-15.479 -15.035,29.021 14.965,29.021 14.965,-15.479 12.065,-15.479 12.065,-16.879
Top Courtyard:
  lines w0.1: -0.5,0 0.5,0 ; 0,-0.5 0,0.5
  lines w0.2: -16.2,-27.075 -15.8,-27.475 15.8,-27.475 16.2,-27.075 16.2,-23.875 15.4,-23.075 15.4,-16.475 -15.4,-16.475 -15.4,-23.075 -16.2,-23.875 -16.2,-27.075 ; -15.4,22.725 -8.7,22.725 -8.7,29.425 -15.4,29.425 -15.4,22.725 ; 8.8,22.725 15.5,22.725 15.5,29.425 8.8,29.425 8.8,22.725
3D body "K3D-MM60-52B1-E1-R2 JAE Connector Division Proprietary.STEP": height 5.95, standoff -0.75, extent -14.845,-26.963 14.855,-16.963

## MOLEX_2047110001 [mm]
height 9.05
pads (30):
  rect 0.298x0.95 smd mask+0.064: A1(2.75,-0.755) A2(2.25,-0.755) A3(1.75,-0.755) A4(1.25,-0.755) A5(0.75,-0.755) A6(0.25,-0.755) A7(-0.25,-0.755) A8(-0.75,-0.755) A9(-1.25,-0.755) A10(-1.75,-0.755) A11(-2.25,-0.755) A12(-2.75,-0.755) B1(-2.75,0.755) B2(-2.25,0.755) B3(-1.75,0.755) B4(-1.25,0.755) B5(-0.75,0.755) B6(-0.25,0.755) B7(0.25,0.755) B8(0.75,0.755) B9(1.25,0.755) B10(1.75,0.755) B11(2.25,0.755) B12(2.75,0.755)
  oval 1.4x1 hole 0.6 slot 1 at 0 deg mask+0.064: SH1(-3.1,2.15) SH3(-3.1,-2.15) SH4(3.1,-2.15) SH6(3.1,2.15)
  oval 1.15x0.75 hole 0.35 slot 0.75 at 0 deg mask+0.064: SH2(-3.75,0) SH5(3.75,0)
Top Overlay:
  lines w0.15: -4.12,-2.45 -4.62,-2.45 -4.62,2.45 -4.12,2.45 ; -2.08,-2.45 2.08,-2.45 ; -2.08,2.45 2.08,2.45 ; 4.12,-2.45 4.62,-2.45 4.62,2.45 4.12,2.45
Top Assembly:
  lines w0.13: -4.47,-2.3 -4.47,2.3 4.47,2.3 4.47,-2.3 -4.47,-2.3
Top Courtyard:
  lines w0.01: -4.77,-2.95 4.77,-2.95 4.77,2.95 -4.77,2.95 -4.77,-2.95
3D body "2047110001.stp": height 0.93, standoff -9.53, extent -4.47,-2.3 4.47,2.3

## PLD-06S [mm] "Pin Header 2.54mm 2 Row H=1.5/1.7/2.5mm SMT Type"
pads (8):
  rrect20% 1x3 smd: 1(-2.54,-2.85) 2(-2.54,2.85) 3(0,-2.85) 4(0,2.85) 5(2.54,-2.85) 6(2.54,2.85)
  round 1.8 hole 1.8 unplated: 7(-1.27,0) 8(1.27,0)
Top Overlay:
  rectangle: -4.064,-3.81 -3.223,-1.27
  lines w0.15: -3.302,-3.81 -4.064,-3.81 -4.064,3.81 -3.302,3.81 ; 3.342,-3.81 4.104,-3.81 4.104,3.81 3.342,3.81
Top Designator:
  text ".Designator" at -2.629,5.7 h0.6
Top Assembly:
  rectangle: -3.835,-2.528 -2.565,-0.62
  lines w0.15: -2.921,-2.54 -2.921,-3.429 -2.159,-3.429 -2.159,-2.54 ; -2.921,2.54 -2.921,3.429 -2.159,3.429 -2.159,2.54 ; -0.381,-2.54 -0.381,-3.429 0.381,-3.429 0.381,-2.54 ; -0.381,2.54 -0.381,3.429 0.381,3.429 0.381,2.54 ; 2.159,-2.54 2.159,-3.429 2.921,-3.429 2.921,-2.54 ; 2.159,2.54 2.159,3.429 2.921,3.429 2.921,2.54 ; -1.27,-1.905 -1.905,-2.54 -3.81,-2.54 -3.81,0 -3.81,1.905 -3.175,2.54 -1.905,2.54 -1.27,1.905 ; -1.27,-1.905 -1.27,0 -1.27,1.905 ; -1.27,-1.905 -0.635,-2.54 0.635,-2.54 1.27,-1.905 ; -1.27,1.905 -0.635,2.54 0.635,2.54 1.27,1.905 ; 1.27,-1.905 1.27,0 1.27,1.905 ; 1.27,-1.905 1.905,-2.54 3.175,-2.54 3.81,-1.905 3.81,0 3.81,1.905 3.175,2.54 1.905,2.54 1.27,1.905
Top Courtyard:
  lines w0.05: -4.196,-4.832 -4.196,4.804 4.234,4.804 4.234,-4.832 -4.196,-4.832
  lines w0.1: -0.5,0 0.5,0 ; 0,-0.5 0,0.5
3D body "PLD6_SMD.stp": height 9.6, standoff 0, extent -3.81,-3.75 3.81,3.75

## PLD-08S [mm] "Pin Header 2.54mm 2 Row H=1.5/1.7/2.5mm SMT Type"
pads (10):
  rrect20% 1x3 smd: 1(-3.81,-2.85) 2(-3.81,2.85) 3(-1.27,-2.85) 4(-1.27,2.85) 5(1.27,-2.85) 6(1.27,2.85) 7(3.81,-2.85) 8(3.81,2.85)
  round 1.8 hole 1.8 unplated: 9(-2.54,0) 10(2.54,0)
Top Overlay:
  rectangle: -5.334,-3.81 -4.493,-1.27
  lines w0.15: -4.572,-3.81 -5.334,-3.81 -5.334,3.81 -4.572,3.81 ; 4.572,-3.81 5.334,-3.81 5.334,3.81 4.572,3.81
Top Designator:
  text ".Designator" at -2.999,5.388 h0.6
Top Assembly:
  rectangle: -5.074,-2.53 -3.804,-0.622
  lines w0.15: -4.191,-2.54 -4.191,-3.429 -3.429,-3.429 -3.429,-2.54 ; -4.191,2.54 -4.191,3.429 -3.429,3.429 -3.429,2.54 ; -1.651,-2.54 -1.651,-3.429 -0.889,-3.429 -0.889,-2.54 ; -1.651,2.54 -1.651,3.429 -0.889,3.429 -0.889,2.54 ; 0.889,-2.54 0.889,-3.429 1.651,-3.429 1.651,-2.54 ; 0.889,2.54 0.889,3.429 1.651,3.429 1.651,2.54 ; 3.429,-2.54 3.429,-3.429 4.191,-3.429 4.191,-2.54 ; 3.429,2.54 3.429,3.429 4.191,3.429 4.191,2.54 ; -2.54,-1.905 -3.175,-2.54 -5.08,-2.54 -5.08,0 -5.08,1.905 -4.445,2.54 -3.175,2.54 -2.54,1.905 ; -2.54,-1.905 -2.54,0 -2.54,1.905 ; -2.54,-1.905 -1.905,-2.54 -0.635,-2.54 0,-1.905 ; -2.54,1.905 -1.905,2.54 -0.635,2.54 0,1.905 ; 0,-1.905 0,0 0,1.905 ; 0,-1.905 0.635,-2.54 1.905,-2.54 2.54,-1.905 ; 0,1.905 0.635,2.54 1.905,2.54 2.54,1.905 ; 2.54,-1.905 2.54,0 2.54,1.905 ; 2.54,-1.905 3.175,-2.54 4.445,-2.54 5.08,-1.905 5.08,0 5.08,1.905 4.445,2.54 3.175,2.54 2.54,1.905
Top Courtyard:
  lines w0.05: -5.466,-4.832 -5.466,4.804 5.464,4.804 5.464,-4.832 -5.466,-4.832
  lines w0.1: -0.5,0 0.5,0 ; 0,-0.5 0,0.5
3D body "PLD8_SMD.stp": height 9.7, standoff 0.1, extent -5.08,-3.75 5.08,3.75

## PLD-10S [mm] "Pin Header 2.54mm 2 Row H=1.5/1.7/2.5mm SMT Type"
pads (12):
  rrect20% 1x3 smd: 1(-5.08,-2.85) 2(-5.08,2.85) 3(-2.54,-2.85) 4(-2.54,2.85) 5(0,-2.85) 6(0,2.85) 7(2.54,-2.85) 8(2.54,2.85) 9(5.08,-2.85) 10(5.08,2.85)
  round 1.8 hole 1.8 unplated: 11(-3.81,0) 12(3.81,0)
Top Overlay:
  rectangle: -6.604,-3.81 -5.763,-1.27
  lines w0.15: -5.842,-3.81 -6.604,-3.81 -6.604,3.81 -5.842,3.81 ; 5.842,-3.81 6.604,-3.81 6.604,3.81 5.842,3.81
Top Designator:
  text ".Designator" at -3.253,5.388 h0.6
Top Assembly:
  rectangle: -6.358,-2.544 -5.088,-0.635
  lines w0.15: -5.461,-2.54 -5.461,-3.429 -4.699,-3.429 -4.699,-2.54 ; -5.461,2.54 -5.461,3.429 -4.699,3.429 -4.699,2.54 ; -2.921,-2.54 -2.921,-3.429 -2.159,-3.429 -2.159,-2.54 ; -2.921,2.54 -2.921,3.429 -2.159,3.429 -2.159,2.54 ; -0.381,-2.54 -0.381,-3.429 0.381,-3.429 0.381,-2.54 ; -0.381,2.54 -0.381,3.429 0.381,3.429 0.381,2.54 ; 2.159,-2.54 2.159,-3.429 2.921,-3.429 2.921,-2.54 ; 2.159,2.54 2.159,3.429 2.921,3.429 2.921,2.54 ; 4.699,-2.54 4.699,-3.429 5.461,-3.429 5.461,-2.54 ; 4.699,2.54 4.699,3.429 5.461,3.429 5.461,2.54 ; -3.81,-1.905 -3.175,-2.54 -1.905,-2.54 -1.27,-1.905 ; -3.81,-1.905 -3.81,0 -3.81,1.905 ; -3.81,-1.905 -4.445,-2.54 -6.35,-2.54 -6.35,0 -6.35,1.905 -5.715,2.54 -4.445,2.54 -3.81,1.905 ; -3.81,1.905 -3.175,2.54 -1.905,2.54 -1.27,1.905 ; -1.27,-1.905 -0.635,-2.54 0.635,-2.54 1.27,-1.905 ; -1.27,-1.905 -1.27,0 -1.27,1.905 ; -1.27,1.905 -0.635,2.54 0.635,2.54 1.27,1.905 ; 1.27,-1.905 1.905,-2.54 3.175,-2.54 3.81,-1.905 ; 1.27,-1.905 1.27,0 1.27,1.905 ; 1.27,1.905 1.905,2.54 3.175,2.54 3.81,1.905 ; 3.81,-1.905 4.445,-2.54 5.715,-2.54 6.35,-1.905 6.35,0 6.35,1.905 5.715,2.54 4.445,2.54 3.81,1.905 ; 3.81,-1.905 3.81,0 3.81,1.905
Top Courtyard:
  lines w0.05: -6.736,-4.832 -6.736,4.804 6.755,4.804 6.755,-4.832 -6.736,-4.832
  lines w0.1: -0.5,0 0.5,0 ; 0,-0.5 0,0.5
3D body "PLD10_SMD.stp": height 9.6, standoff 0, extent -6.35,-3.75 6.35,3.75

## PLS-2 [mm]
pads (2):
  rrect20% 1.85x1.85 hole 1: 1(-1.27,0)
  round 1.85 hole 1: 2(1.27,0)
Top Overlay:
  lines w0.15: -2.58,-0.92 -2.58,0.906 -2.191,1.294 -0.4,1.294 0.001,0.893 0.409,1.3 2.103,1.3 2.54,0.863 2.54,-0.884 2.13,-1.294 0.4,-1.294 -0.001,-0.893 -0.409,-1.3 -2.2,-1.3 -2.58,-0.92
Top Designator:
  text ".Designator" at -2.999,1.8 h0.6
Top Assembly:
  rectangle: -2.59,-1.3 -0.302,1.294
  lines w0.15: -2.58,-1.3 -2.58,1.294 -0.4,1.294 0.001,0.893 0.409,1.3 2.103,1.3 2.54,0.863 2.54,-0.884 2.13,-1.294 0.4,-1.294 -0.001,-0.893 -0.409,-1.3 -2.58,-1.3
Bottom Assembly:
  circle w0.01: c1.27,0 r0.925
  lines w0.01: -2.195,-0.925 -0.345,-0.925 -0.345,0.925 -2.195,0.925 -2.195,-0.925
  text "1" at -1.46,-0.5 h1.5
Top Courtyard:
  lines w0.05: -2.734,-1.467 -2.734,1.45 2.711,1.45 2.711,-1.467 -2.734,-1.467
  lines w0.1: -0.5,0 0.5,0 ; 0,-0.5 0,0.5
3D body "PLS-2.step": height 8.6, standoff -3, extent -2.54,-1.27 2.54,1.27